# Altium schematic symbol library 1121.SchLib: 1 symbol
Pins are listed as number, name and electrical type; pins without a type are passive.

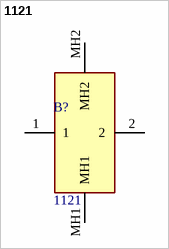
[diagram p0: symbol 1121]

## 1121
designator B?
Cylindrical Battery Contacts, Clips, Holders & Springs THM BATTERY HOLDER FOR 20700 & 21700; Manufacturer_Name: Keystone Electronics; Geometry.Height: 17.27mm; TME Electronic Components Part Number: *; TME Electronic Components Price/Stock: *; Manufacturer_Part_Number: 1121; Datasheet Link: https://www.keyelco.com/product.cfm/product_id/14553
footprint 1121
pins: 1, 2, MH1, MH2